# Altium schematic symbol library Symbol Library.SchLib: 20 symbols
Pins are listed as number, name and electrical type; pins without a type are passive.

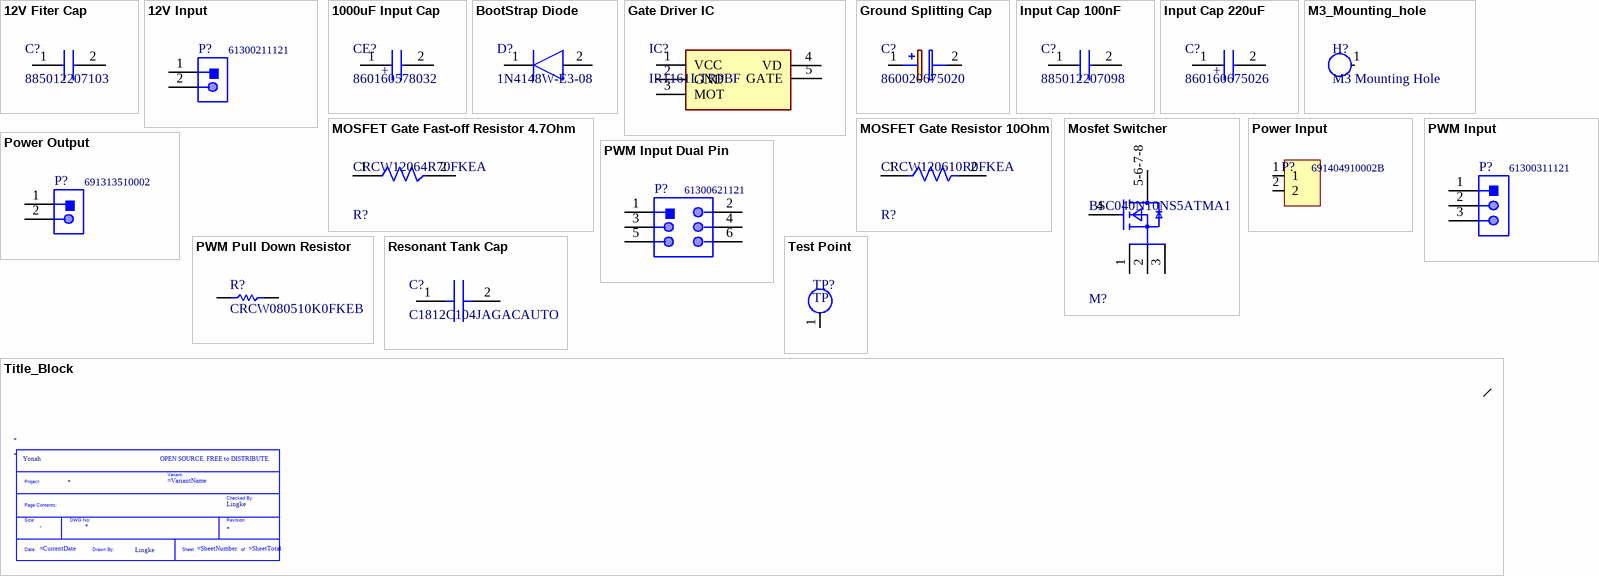
[diagram p0: symbols 12V Fiter Cap to Title_Block]

## 12V Fiter Cap
designator C?, comment 885012207103
Capacitor; Manufacturer_Name: Wurth Elektronik; Datasheet Link: https://katalog.we-online.com/pbs/datasheet/885012207103.pdf; Height: 1.35mm; Manufacturer_Part_Number: 885012207103; Supplier 1: Mouser; Supplier Part Number 1: 710-885012207103
footprint CAPC2012X135N
pins: 1, 2

## 12V Input
designator P?, comment 61300211121
THT Vertical Pin Header WR-PHD, Pitch 2.54 mm, Single Row, 2 pins; Manufacturer: Wurth Elektronik; Rated Current: 3A; Gender: Male; Withstanding Voltage: 500VAC; Working Voltage: 250VAC; Pitch: 2.54mm; Contact Resistance: 20mOhm; Pin Number: 2; Mounting Technology: THT; Orientation: Vertical; Operating Temperature: -40to105degC; Packaging: Bag; Publisher: WurthElektronik; Datasheet URL: https://katalog.we-online.de/em/datasheet/6130xx11121.pdf; Manufacturer URL: http://www.we-online.de; Row Number: Single; Package Reference: 61300211121; Part Number: 61300211121; Supplier 1: Mouser; Supplier Part Number 1: 710-61300211121
footprint 61300211121 (Pin Header, pitch 2.54 mm, THT, Vertical, single row, 2p)
pins: 1, 2

## 1000uF Input Cap
designator CE?, comment 860160578032
Capacitor 1000uF Input Filtering; Manufacturer_Name: Wurth Elektronik; Datasheet Link: https://katalog.we-online.de/pbs/datasheet/860160578032.pdf; Height: 26.5mm; Manufacturer_Part_Number: 860160578032; Supplier 1: Mouser; Supplier Part Number 1: 710-860160578032
footprint CAPPRD500W62D1300H2650
pins: 1 +, 2 -

## BootStrap Diode
designator D?, comment 1N4148W-E3-08
Diode; Manufacturer_Name: Vishay; Datasheet Link: https://componentsearchengine.com//1N4148W-E3-08.pdf; Height: 1.35mm; Mouser2 Part Number: 78-1N4148W-E3-08; Mouser2 Price/Stock: https://www.mouser.com/Search/Refine.aspx?Keyword=78-1N4148W-E3-08; Manufacturer_Part_Number: 1N4148W-E3-08; Supplier 1: Digi-Key; Supplier Part Number 1: 1N4148W-E3-08CT-ND
footprint SOD3716X135N
pins: 1 K, 2 A

## Gate Driver IC
designator IC?, comment IR1161LTRPBF
Integrated Circuit; Manufacturer_Name: Infineon; Height: 1.45mm; Manufacturer_Part_Number: IR1161LTRPBF; Supplier 1: Mouser; Supplier Part Number 1: 942-IR1161LTRPBF
footprint SOT95P280X145-5N
pins: 1 VCC, 2 GND, 3 MOT, 4 VD, 5 GATE

## Ground Splitting Cap
designator C?, comment 860020675020
Capacitor Polarised 220uF 50V; Manufacturer_Name: Wurth Elektronik; Height: 14mm; Manufacturer_Part_Number: 860020675020; Supplier 1: Mouser; Supplier Part Number 1: 710-860020675020
footprint CAPPRD500W62D1000H1400
pins: 1 +, 2 -

## Input Cap 100nF
designator C?, comment 885012207098
Capacitor 0.1uF/50V X7R; Manufacturer_Name: Wurth Elektronik; Datasheet Link: https://componentsearchengine.com//885012207098.pdf; Height: 0.9mm; Mouser2 Part Number: 710-885012207098; Mouser2 Price/Stock: https://www.mouser.com/Search/Refine.aspx?Keyword=710-885012207098; Manufacturer_Part_Number: 885012207098; Supplier 1: Mouser; Supplier Part Number 1: 710-885012207098
footprint CAPC2012X90N
pins: 1, 2

## Input Cap 220uF
designator C?, comment 860160675026
Capacitor 220uF/50V; Manufacturer_Name: Wurth Elektronik; Height: 17.5mm; Manufacturer_Part_Number: 860160675026; Supplier 1: Mouser; Supplier Part Number 1: 710-860160675026
footprint CAPPRD500W62D1000H1750
pins: 1 +, 2 -

## M3_Mounting_hole
designator H?, comment M3 Mounting Hole
footprint M3 Hole
pins: 1

## MOSFET Gate Fast-off Resistor 4.7Ohm
designator R?, comment CRCW12064R70FKEA
RES Thick Film, 4.7Ω, 1%, 0.25W, 100ppm/°C, 1206; Resistance: 4.7R; Power Rating: 250mW; Voltage Rating: 200V; Length: 3.2mm; Composition: Thick Film; Weight: 0.000353oz; Temperature Coefficient: 100ppm/°C; Height: 0.024inch; Case Code (Imperial): 1206; Width: 0.063inch; Number of Terminations: 2; Case Code (Metric): 3216; Features: Automotive AEC-Q200; Packaging: Tape and Reel; Tolerance: 1%; Contact Plating: Tin; Military Standard: Not; Depth: 1.6mm; Max Operating Temperature: 155°C; Number of Pins: 2; Min Operating Temperature: -55°C; Max Power Dissipation: 250mW; Mount: Surface Mount; Case/Package: 1206; Package Quantity: 10; Radiation Hardening: No; Supplier 1: Mouser; Supplier Part Number 1: 71-CRCW12064R70FKEA
footprint FP-CRCW1206-e3-IPC_B
footprint FP-CRCW1206-e3-IPC_C
footprint FP-CRCW1206-e3-MFG
footprint FP-CRCW1206-e3-IPC_A
pins: 1, 2

## MOSFET Gate Resistor 10Ohm
designator R?, comment CRCW120610R0FKEA
RES Thick Film, 10Ω, 1%, 0.25W, 100ppm/°C, 1206; Power Rating: 250mW; Voltage Rating (DC): 200V; Resistance: 10R; Number of Terminations: 2; Width: 0.063inch; Case Code (Imperial): 1206; Depth: 1.6mm; Contact Plating: Tin; Radiation Hardening: No; Lead Free: Lead Free; Length: 3.2mm; Tolerance: 1%; Max Power Dissipation: 250mW; Composition: Thick Film; Weight: 0.000353oz; Case/Package: 1206; Number of Pins: 2; Package Quantity: 10; Min Operating Temperature: -55°C; Military Standard: Not; Max Operating Temperature: 155°C; Termination: SMD/SMT; Case Code (Metric): 3216; Voltage Rating: 200V; Height: 0.55mm; Features: Automotive AEC-Q200; Temperature Coefficient: 100ppm/°C; Packaging: Tape and Reel; Supplier 1: Digi-Key; Supplier Part Number 1: 541-10.0FDKR-ND
footprint FP-CRCW1206-e3-IPC_B
footprint FP-CRCW1206-e3-IPC_C
footprint FP-CRCW1206-e3-MFG
footprint FP-CRCW1206-e3-IPC_A
pins: 1, 2

## Mosfet Switcher
designator M?, comment BSC040N10NS5ATMA1
MOSFET N-CH 100V 100A 8TDSON; Manufacturer: Infineon; Threshold Vgs Max: 3.8V; Reverse Recovery Charge: 90nC; Number Of N Channels: 1; Input Capacitace At Vds: 4100pF @ 50V; Turn On Delay Time: 13ns; Drain To Source Resistance: 3.4mΩ; Max Junction Temp: +150°C; Transconductance: 120S; Power Dissipation: 139W; Gate Charge At Vgs: 58nC @ 10V; Threshold Vgs Min: 2.2V; Typ Forward Diode Voltage: 0.9V; Depletion Mode: False; Gate To Source Voltage: 20V; Rthja Max: 50K/W; Pulse Drain Current: 400A; Turn Off Delay Time: 32ns; Max Forward Diode Voltage: 1.1V; Reverse Recovery Time: 54ns; ComponentLink2Description: Datasheet; Temperature Range Low: -55°C; Automotive: No; Number Of Channels: 1; Mouser Description: MOSFET N-Ch 100V 100A TDSON-8; Height: 1.1mm; Temperature Range High: +150°C; Drain To Source Breakdown Voltage: 100V; Temperature: -55°C to +150°C; Device Class L3: MOSFETs; Drain To Source Voltage: 100V; Digikey Description: MOSFET N-CH 100V 100A 8TDSON; Continuous Drain Current: 100A; Package: PG-TDSON-8; Lead Free: Yes; ComponentLink2URL: https://www.infineon.com/dgdl/Infineon-BSC040N10NS5-DS-v02_02-EN.pdf?fileId=5546d4624a0bf290014a0fbcee2e6b38; Manufacturer Part Number: BSC040N10NS5ATMA1; Footprint Url: https://www.infineon.com/dgdl/Infineon-PG-TDSON-8-7-FP-v01_00-EN.pdf?fileId=5546d46259d9a4bf015a1b6adadd1f0a; Device Class L2: Transistors; Category: Trans; RoHS: TRUE; Device Class L1: Discrete Semiconductors; Octopart: https://octopart.com/bsc040n10ns5atma1-infineon-52825711; Supplier 1: Mouser; Supplier Part Number 1: 726-BSC040N10NS5ATMA
footprint FP-PG-TDSON-8-MFG
pins: 1 S, 2 S, 3 S, 4 G, 5-6-7-8 D

## Power Input
designator P?, comment 691404910002B
Serie 4049 B - 7.50mm Screwless Clamp Power Connector WR-TBL, 2 pin; Manufacturer: Wurth Elektronik; Pin Number: 2; Mounting Technology: THT; Operating Temperature: -40to105degC; Part Number: 691404910002B; Package Reference: 691404910002B; Manufacturer URL: http://www.we-online.de; Publisher: WurthElektronik; Packaging: Box; Datasheet URL: http://katalog.we-online.de/em/datasheet/6914049100xxB.pdf; Pitch: 7.50mm; Supplier Part Number 1: 710-691404910002B; Supplier 1: Mouser
footprint 691404910002B (7.50 mm Screwless Clamp Power Connector, 2p)
pins: 1, 2

## Power Output
designator P?, comment 691313510002
Serie 313 - 5.08mm Close Horizontal PCB Header WR-TBL, 2 pin; Manufacturer: Wurth Elektronik; Gender: Male; Pin Number: 2; Publisher: WurthElektronik; Packaging: Box; Part Number: 691313510002; Package Reference: 691313510002; Mounting Technology: THT; Datasheet URL: http://katalog.we-online.de/em/datasheet/6913135100xx.pdf; Pitch: 5.08mm; Operating Temperature: -40to105degC; Manufacturer URL: http://www.we-online.de; Supplier 1: Mouser; Supplier Part Number 1: 710-691313510002
footprint 691313510002 (5,08mm - PCB Headers - Horizontal - Closed ends - 02p)
pins: 1, 2

## PWM Input
designator P?, comment 61300311121
THT Vertical Pin Header WR-PHD, Pitch 2.54 mm, Single Row, 3 pins; Manufacturer: Wurth Elektronik; Withstanding Voltage: 500VAC; Working Voltage: 250VAC; Rated Current: 3A; Pitch: 2.54mm; Pin Number: 3; Gender: Male; Contact Resistance: 20mOhm; Package Reference: 61300311121; Manufacturer URL: http://www.we-online.de; Datasheet URL: https://katalog.we-online.de/em/datasheet/6130xx11121.pdf; Operating Temperature: -40to105degC; Part Number: 61300311121; Orientation: Vertical; Packaging: Bag; Row Number: Single; Mounting Technology: THT; Publisher: WurthElektronik; Supplier 1: Mouser; Supplier Part Number 1: 710-61300311121
footprint 61300311121 (Pin Header, pitch 2.54 mm, THT, Vertical, single row, 3p)
pins: 1, 2, 3

## PWM Input Dual Pin
designator P?, comment 61300621121
THT Vertical Pin Header WR-PHD, Pitch 2.54 mm, Dual Row, 6 pins; Manufacturer: Wurth Elektronik; Contact Resistance: 20mOhm; Withstanding Voltage: 500VAC; Pin Number: 6; Gender: Male; Pitch: 2.54mm; Working Voltage: 250VAC; Rated Current: 3A; Packaging: Bag; Row Number: Dual; Manufacturer URL: http://www.we-online.de; Part Number: 61300621121; Operating Temperature: -40to105degC; Mounting Technology: THT; Package Reference: 61300621121; Datasheet URL: https://katalog.we-online.de/em/datasheet/6130xx21121.pdf; Orientation: Vertical; Publisher: WurthElektronik; Supplier Part Number 1: 710-61300621121; Supplier 1: Mouser
footprint 61300621121 (Pin Header, pitch 2.54 mm, THT, Vertical, dual row, 6p)
pins: 1, 2, 3, 4, 5, 6

## PWM Pull Down Resistor
designator R?, comment CRCW080510K0FKEB
Manufacturer: Vishay Dale; Part Number: CRCW080510K0FKEB; Supplier 1: Mouser; Supplier Part Number 1: 71-CRCW080510K0FKEB
footprint RESC2013X50X30ML20T20 (Chip Resistor, 2-Leads, Body 2.00x1.25mm, IPC Low Density)
footprint RESC2013X50X30NL20T20 (Chip Resistor, 2-Leads, Body 2.00x1.25mm, IPC Medium Density)
footprint RESC2013X50X30LL20T20 (Chip Resistor, 2-Leads, Body 2.00x1.25mm, IPC High Density)
pins: 1, 2
1 alternate drawing of the same symbol

## Resonant Tank Cap
designator C?, comment C1812C104JAGACAUTO
Resistor; Manufacturer_Name: Kemet; Datasheet Link: https://api.kemet.com/component-edge/download/datasheet/C1812C104JAGACAUTO.pdf; Height: 2.2mm; Manufacturer_Part_Number: C1812C104JAGACAUTO; Supplier Part Number 1: 80-C1812C104JAGAUTO; Supplier 1: Mouser
footprint CAPC4532X220N
pins: 1, 2

## Test Point
designator TP?, comment TP  (value not drawn)  (no BOM)
Test Point 1mm by 1mm
footprint Test Point
pins: 1 TP

## Title_Block
designator *  Company: Yonah  Drawn By: Lingke  (graphical)
Standard Title Block.; Project Name: *; Revision: *; DWG No: *; Size: -; Checked By: Lingke
text: OPEN SOURCE. FREE to DISTRIBUTE.; Variant:; Project:; Checked By:; Page Contents:; Size:; DWG No:; Revision; Date:; Drawn By:; Sheet; of